# Altium integrated library Actel ProASIC APA FPGA.IntLib: 439 symbols (part 2 of 3)
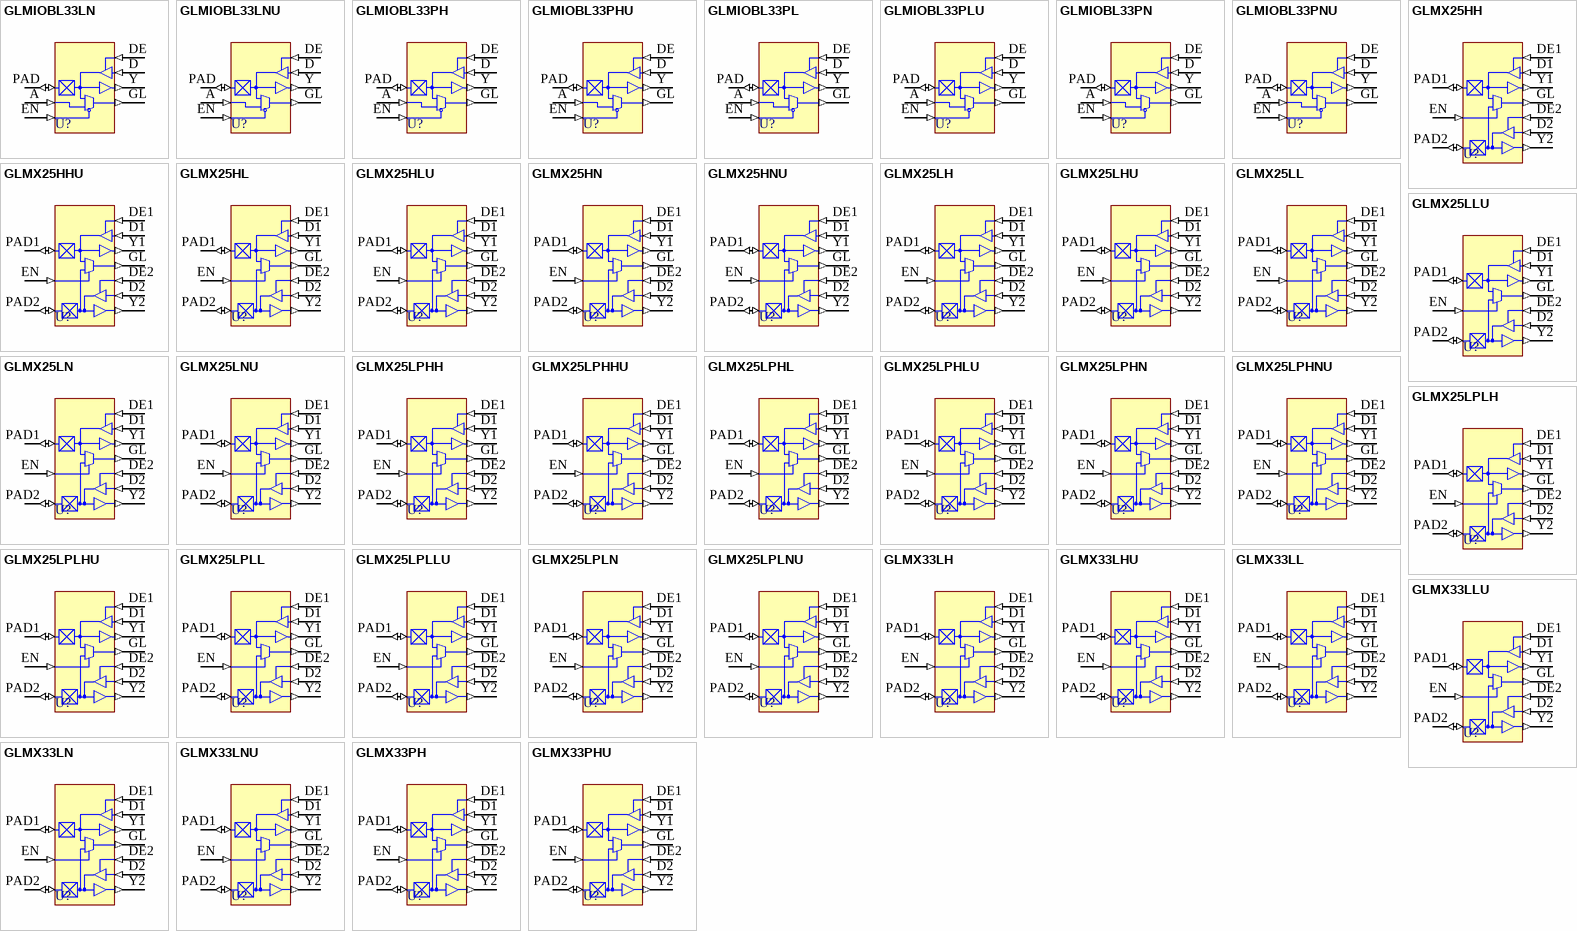
[diagram p12: symbols GLMIOBL33LN to GLMX33PHU]

## GLMIOBL33PNU
designator U?
3.3 Volt CMOS input levels, PCI compliant, normal slew, w/ pull-up resistor; FPGAVendor: Actel; Published: 21-Jul-2004; Publisher: Altium Limited; HelpURL: http://www.actel.com/documents/PA_libguide.pdf
pins: A (in), D (in), DE (in), EN (in), GL (out), PAD (io), Y (out)

## GLMX25HH
designator U?
2.5 Volt CMOS input levels, high power, high slew; FPGAVendor: Actel; Published: 21-Jul-2004; Publisher: Altium Limited; HelpURL: http://www.actel.com/documents/PA_libguide.pdf
pins: D1 (in), D2 (in), DE1 (in), DE2 (in), EN (in), GL (out), PAD1 (io), PAD2 (io), Y1 (out), Y2 (out)

## GLMX25HHU
designator U?
2.5 Volt CMOS input levels, high power, high slew, w/ pull-up resistor; FPGAVendor: Actel; Published: 21-Jul-2004; Publisher: Altium Limited; HelpURL: http://www.actel.com/documents/PA_libguide.pdf
pins: D1 (in), D2 (in), DE1 (in), DE2 (in), EN (in), GL (out), PAD1 (io), PAD2 (io), Y1 (out), Y2 (out)

## GLMX25HL
designator U?
2.5 Volt CMOS input levels, high power, low slew; FPGAVendor: Actel; Published: 21-Jul-2004; Publisher: Altium Limited; HelpURL: http://www.actel.com/documents/PA_libguide.pdf
pins: D1 (in), D2 (in), DE1 (in), DE2 (in), EN (in), GL (out), PAD1 (io), PAD2 (io), Y1 (out), Y2 (out)

## GLMX25HLU
designator U?
2.5 Volt CMOS input levels, high power, low slew, w/ pull-up resistor; FPGAVendor: Actel; Published: 21-Jul-2004; Publisher: Altium Limited; HelpURL: http://www.actel.com/documents/PA_libguide.pdf
pins: D1 (in), D2 (in), DE1 (in), DE2 (in), EN (in), GL (out), PAD1 (io), PAD2 (io), Y1 (out), Y2 (out)

## GLMX25HN
designator U?
2.5 Volt CMOS input levels, high power, normal slew; FPGAVendor: Actel; Published: 21-Jul-2004; Publisher: Altium Limited; HelpURL: http://www.actel.com/documents/PA_libguide.pdf
pins: D1 (in), D2 (in), DE1 (in), DE2 (in), EN (in), GL (out), PAD1 (io), PAD2 (io), Y1 (out), Y2 (out)

## GLMX25HNU
designator U?
2.5 Volt CMOS input levels, high power, normal slew, w/ pull-up resistor; FPGAVendor: Actel; Published: 21-Jul-2004; Publisher: Altium Limited; HelpURL: http://www.actel.com/documents/PA_libguide.pdf
pins: D1 (in), D2 (in), DE1 (in), DE2 (in), EN (in), GL (out), PAD1 (io), PAD2 (io), Y1 (out), Y2 (out)

## GLMX25LH
designator U?
2.5 Volt CMOS input levels, low power, high slew; FPGAVendor: Actel; Published: 21-Jul-2004; Publisher: Altium Limited; HelpURL: http://www.actel.com/documents/PA_libguide.pdf
pins: D1 (in), D2 (in), DE1 (in), DE2 (in), EN (in), GL (out), PAD1 (io), PAD2 (io), Y1 (out), Y2 (out)

## GLMX25LHU
designator U?
2.5 Volt CMOS input levels, low power, high slew, w/ pull-up resistor; FPGAVendor: Actel; Published: 21-Jul-2004; Publisher: Altium Limited; HelpURL: http://www.actel.com/documents/PA_libguide.pdf
pins: D1 (in), D2 (in), DE1 (in), DE2 (in), EN (in), GL (out), PAD1 (io), PAD2 (io), Y1 (out), Y2 (out)

## GLMX25LL
designator U?
2.5 Volt CMOS input levels, low power, low slew; FPGAVendor: Actel; Published: 21-Jul-2004; Publisher: Altium Limited; HelpURL: http://www.actel.com/documents/PA_libguide.pdf
pins: D1 (in), D2 (in), DE1 (in), DE2 (in), EN (in), GL (out), PAD1 (io), PAD2 (io), Y1 (out), Y2 (out)

## GLMX25LLU
designator U?
2.5 Volt CMOS input levels, low power, low slew, w/ pull-up resistor; FPGAVendor: Actel; Published: 21-Jul-2004; Publisher: Altium Limited; HelpURL: http://www.actel.com/documents/PA_libguide.pdf
pins: D1 (in), D2 (in), DE1 (in), DE2 (in), EN (in), GL (out), PAD1 (io), PAD2 (io), Y1 (out), Y2 (out)

## GLMX25LN
designator U?
2.5 Volt CMOS input levels, low power, normal slew; FPGAVendor: Actel; Published: 21-Jul-2004; Publisher: Altium Limited; HelpURL: http://www.actel.com/documents/PA_libguide.pdf
pins: D1 (in), D2 (in), DE1 (in), DE2 (in), EN (in), GL (out), PAD1 (io), PAD2 (io), Y1 (out), Y2 (out)

## GLMX25LNU
designator U?
2.5 Volt CMOS input levels, low power, normal slew, w/ pull up resistor; FPGAVendor: Actel; Published: 21-Jul-2004; Publisher: Altium Limited; HelpURL: http://www.actel.com/documents/PA_libguide.pdf
pins: D1 (in), D2 (in), DE1 (in), DE2 (in), EN (in), GL (out), PAD1 (io), PAD2 (io), Y1 (out), Y2 (out)

## GLMX25LPHH
designator U?
2.5 Volt CMOS input levels, low power, high strength, high slew; FPGAVendor: Actel; Published: 21-Jul-2004; Publisher: Altium Limited; HelpURL: http://www.actel.com/documents/PA_libguide.pdf
pins: D1 (in), D2 (in), DE1 (in), DE2 (in), EN (in), GL (out), PAD1 (io), PAD2 (io), Y1 (out), Y2 (out)

## GLMX25LPHHU
designator U?
2.5 Volt CMOS input levels, low power, high strength, high slew, w/ pull-up resistor; FPGAVendor: Actel; Published: 21-Jul-2004; Publisher: Altium Limited; HelpURL: http://www.actel.com/documents/PA_libguide.pdf
pins: D1 (in), D2 (in), DE1 (in), DE2 (in), EN (in), GL (out), PAD1 (io), PAD2 (io), Y1 (out), Y2 (out)

## GLMX25LPHL
designator U?
2.5 Volt CMOS input levels, low power, high strength, low slew; FPGAVendor: Actel; Published: 21-Jul-2004; Publisher: Altium Limited; HelpURL: http://www.actel.com/documents/PA_libguide.pdf
pins: D1 (in), D2 (in), DE1 (in), DE2 (in), EN (in), GL (out), PAD1 (io), PAD2 (io), Y1 (out), Y2 (out)

## GLMX25LPHLU
designator U?
2.5 Volt CMOS input levels, low power, high strength, low slew, w/ pull-up resistor; FPGAVendor: Actel; Published: 21-Jul-2004; Publisher: Altium Limited; HelpURL: http://www.actel.com/documents/PA_libguide.pdf
pins: D1 (in), D2 (in), DE1 (in), DE2 (in), EN (in), GL (out), PAD1 (io), PAD2 (io), Y1 (out), Y2 (out)

## GLMX25LPHN
designator U?
2.5 Volt CMOS input levels, low power, high strength, normal slew; FPGAVendor: Actel; Published: 21-Jul-2004; Publisher: Altium Limited; HelpURL: http://www.actel.com/documents/PA_libguide.pdf
pins: D1 (in), D2 (in), DE1 (in), DE2 (in), EN (in), GL (out), PAD1 (io), PAD2 (io), Y1 (out), Y2 (out)

## GLMX25LPHNU
designator U?
2.5 Volt CMOS input levels, low power, high strength, normal slew, w/ pull-up resistor; FPGAVendor: Actel; Published: 21-Jul-2004; Publisher: Altium Limited; HelpURL: http://www.actel.com/documents/PA_libguide.pdf
pins: D1 (in), D2 (in), DE1 (in), DE2 (in), EN (in), GL (out), PAD1 (io), PAD2 (io), Y1 (out), Y2 (out)

## GLMX25LPLH
designator U?
2.5 Volt CMOS input levels, low power, low strength, high slew; FPGAVendor: Actel; Published: 21-Jul-2004; Publisher: Altium Limited; HelpURL: http://www.actel.com/documents/PA_libguide.pdf
pins: D1 (in), D2 (in), DE1 (in), DE2 (in), EN (in), GL (out), PAD1 (io), PAD2 (io), Y1 (out), Y2 (out)

## GLMX25LPLHU
designator U?
2.5 Volt CMOS input levels, low power, low strength, high slew, w/ pull-up resistor; FPGAVendor: Actel; Published: 21-Jul-2004; Publisher: Altium Limited; HelpURL: http://www.actel.com/documents/PA_libguide.pdf
pins: D1 (in), D2 (in), DE1 (in), DE2 (in), EN (in), GL (out), PAD1 (io), PAD2 (io), Y1 (out), Y2 (out)

## GLMX25LPLL
designator U?
2.5 Volt CMOS input levels, low power, low strength, low slew; FPGAVendor: Actel; Published: 21-Jul-2004; Publisher: Altium Limited; HelpURL: http://www.actel.com/documents/PA_libguide.pdf
pins: D1 (in), D2 (in), DE1 (in), DE2 (in), EN (in), GL (out), PAD1 (io), PAD2 (io), Y1 (out), Y2 (out)

## GLMX25LPLLU
designator U?
2.5 Volt CMOS input levels, low power, low strength, low slew, w/ pull-up resistor; FPGAVendor: Actel; Published: 21-Jul-2004; Publisher: Altium Limited; HelpURL: http://www.actel.com/documents/PA_libguide.pdf
pins: D1 (in), D2 (in), DE1 (in), DE2 (in), EN (in), GL (out), PAD1 (io), PAD2 (io), Y1 (out), Y2 (out)

## GLMX25LPLN
designator U?
2.5 Volt CMOS input levels, low power, low strength, normal slew; FPGAVendor: Actel; Published: 21-Jul-2004; Publisher: Altium Limited; HelpURL: http://www.actel.com/documents/PA_libguide.pdf
pins: D1 (in), D2 (in), DE1 (in), DE2 (in), EN (in), GL (out), PAD1 (io), PAD2 (io), Y1 (out), Y2 (out)

## GLMX25LPLNU
designator U?
2.5 Volt CMOS input levels, low power, low strength, normal slew, w/ pull-up resistor; FPGAVendor: Actel; Published: 21-Jul-2004; Publisher: Altium Limited; HelpURL: http://www.actel.com/documents/PA_libguide.pdf
pins: D1 (in), D2 (in), DE1 (in), DE2 (in), EN (in), GL (out), PAD1 (io), PAD2 (io), Y1 (out), Y2 (out)

## GLMX33LH
designator U?
3.3 Volt CMOS input levels, low power, high slew; FPGAVendor: Actel; Published: 21-Jul-2004; Publisher: Altium Limited; HelpURL: http://www.actel.com/documents/PA_libguide.pdf
pins: D1 (in), D2 (in), DE1 (in), DE2 (in), EN (in), GL (out), PAD1 (io), PAD2 (io), Y1 (out), Y2 (out)

## GLMX33LHU
designator U?
3.3 Volt CMOS input levels, low power, high slew, w/ pull-up resistor; FPGAVendor: Actel; Published: 21-Jul-2004; Publisher: Altium Limited; HelpURL: http://www.actel.com/documents/PA_libguide.pdf
pins: D1 (in), D2 (in), DE1 (in), DE2 (in), EN (in), GL (out), PAD1 (io), PAD2 (io), Y1 (out), Y2 (out)

## GLMX33LL
designator U?
3.3 Volt CMOS input levels, low power, low slew; FPGAVendor: Actel; Published: 21-Jul-2004; Publisher: Altium Limited; HelpURL: http://www.actel.com/documents/PA_libguide.pdf
pins: D1 (in), D2 (in), DE1 (in), DE2 (in), EN (in), GL (out), PAD1 (io), PAD2 (io), Y1 (out), Y2 (out)

## GLMX33LLU
designator U?
3.3 Volt CMOS input levels, low power, low slew, w/ pull-up resistor; FPGAVendor: Actel; Published: 21-Jul-2004; Publisher: Altium Limited; HelpURL: http://www.actel.com/documents/PA_libguide.pdf
pins: D1 (in), D2 (in), DE1 (in), DE2 (in), EN (in), GL (out), PAD1 (io), PAD2 (io), Y1 (out), Y2 (out)

## GLMX33LN
designator U?
3.3 Volt CMOS input levels, low power, normal slew; FPGAVendor: Actel; Published: 21-Jul-2004; Publisher: Altium Limited; HelpURL: http://www.actel.com/documents/PA_libguide.pdf
pins: D1 (in), D2 (in), DE1 (in), DE2 (in), EN (in), GL (out), PAD1 (io), PAD2 (io), Y1 (out), Y2 (out)

## GLMX33LNU
designator U?
3.3 Volt CMOS input levels, low power, normal slew, w/ pull up resistor; FPGAVendor: Actel; Published: 21-Jul-2004; Publisher: Altium Limited; HelpURL: http://www.actel.com/documents/PA_libguide.pdf
pins: D1 (in), D2 (in), DE1 (in), DE2 (in), EN (in), GL (out), PAD1 (io), PAD2 (io), Y1 (out), Y2 (out)

## GLMX33PH
designator U?
3.3 Volt CMOS input levels, PCI compliant, high slew; FPGAVendor: Actel; Published: 21-Jul-2004; Publisher: Altium Limited; HelpURL: http://www.actel.com/documents/PA_libguide.pdf
pins: D1 (in), D2 (in), DE1 (in), DE2 (in), EN (in), GL (out), PAD1 (io), PAD2 (io), Y1 (out), Y2 (out)

## GLMX33PHU
designator U?
3.3 Volt CMOS input levels, PCI compliant, high slew, w/ pull-up resistor; FPGAVendor: Actel; Published: 21-Jul-2004; Publisher: Altium Limited; HelpURL: http://www.actel.com/documents/PA_libguide.pdf
pins: D1 (in), D2 (in), DE1 (in), DE2 (in), EN (in), GL (out), PAD1 (io), PAD2 (io), Y1 (out), Y2 (out)

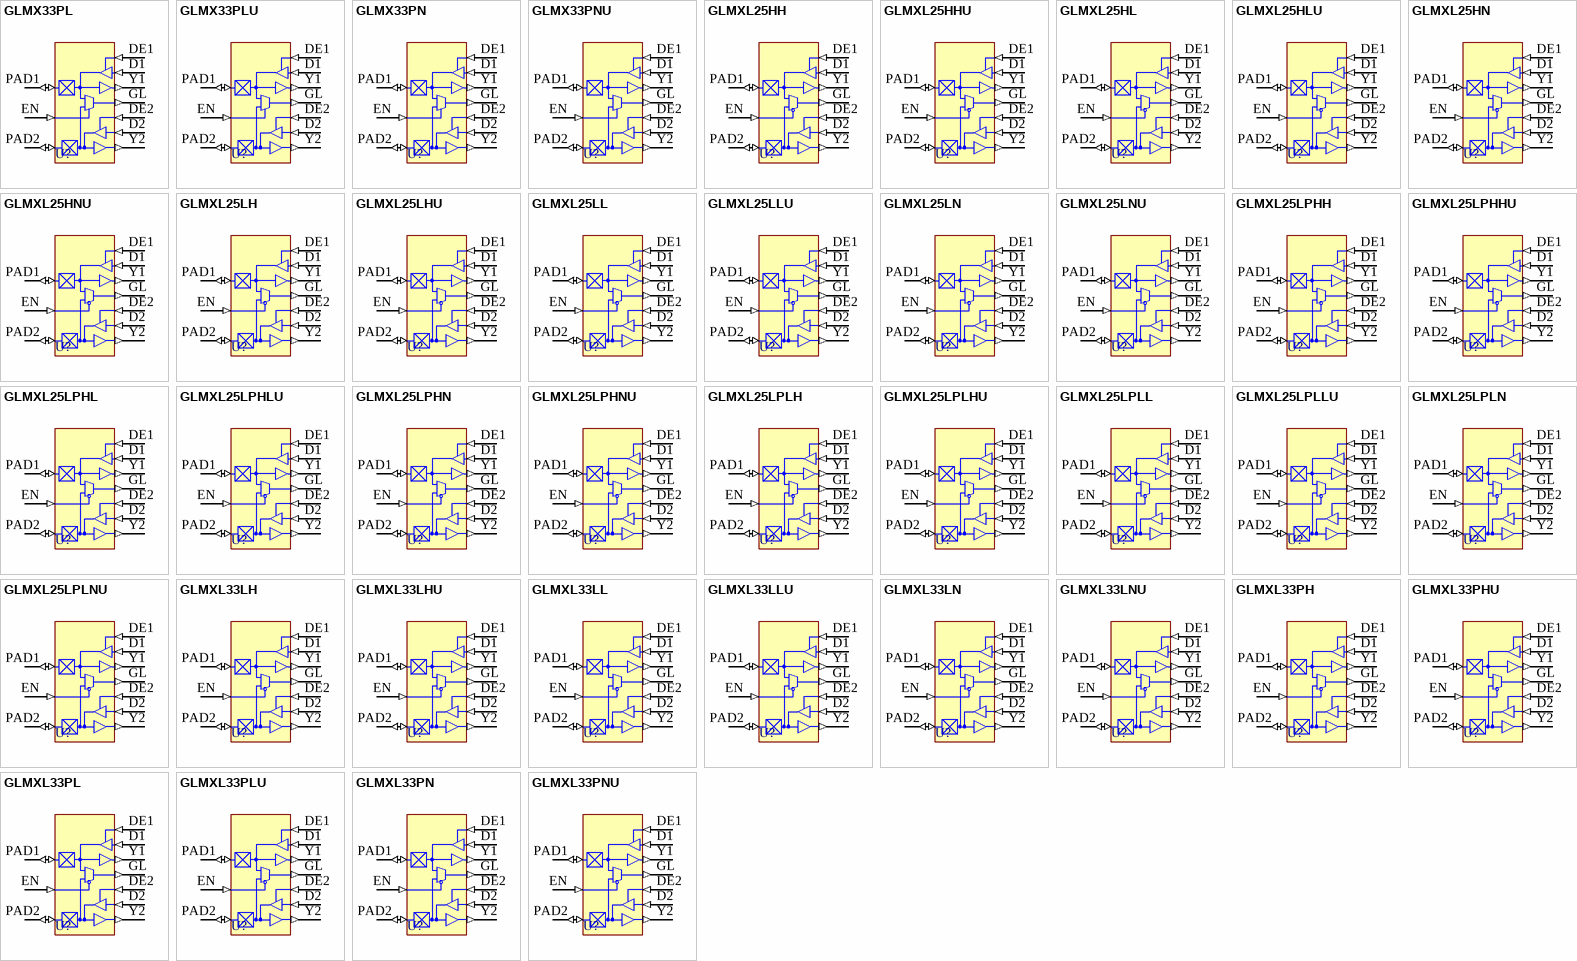
[diagram p5: symbols GLMX33PL to GLMXL33PNU]

## GLMX33PL
designator U?
3.3 Volt CMOS input levels, PCI compliant, low slew; FPGAVendor: Actel; Published: 21-Jul-2004; Publisher: Altium Limited; HelpURL: http://www.actel.com/documents/PA_libguide.pdf
pins: D1 (in), D2 (in), DE1 (in), DE2 (in), EN (in), GL (out), PAD1 (io), PAD2 (io), Y1 (out), Y2 (out)

## GLMX33PLU
designator U?
3.3 Volt CMOS input levels, PCI compliant, low slew, w/ pull-up resistor; FPGAVendor: Actel; Published: 21-Jul-2004; Publisher: Altium Limited; HelpURL: http://www.actel.com/documents/PA_libguide.pdf
pins: D1 (in), D2 (in), DE1 (in), DE2 (in), EN (in), GL (out), PAD1 (io), PAD2 (io), Y1 (out), Y2 (out)

## GLMX33PN
designator U?
3.3 Volt CMOS input levels, PCI compliant, normal slew; FPGAVendor: Actel; Published: 21-Jul-2004; Publisher: Altium Limited; HelpURL: http://www.actel.com/documents/PA_libguide.pdf
pins: D1 (in), D2 (in), DE1 (in), DE2 (in), EN (in), GL (out), PAD1 (io), PAD2 (io), Y1 (out), Y2 (out)

## GLMX33PNU
designator U?
3.3 Volt CMOS input levels, PCI compliant, normal slew, w/ pull-up resistor; FPGAVendor: Actel; Published: 21-Jul-2004; Publisher: Altium Limited; HelpURL: http://www.actel.com/documents/PA_libguide.pdf
pins: D1 (in), D2 (in), DE1 (in), DE2 (in), EN (in), GL (out), PAD1 (io), PAD2 (io), Y1 (out), Y2 (out)

## GLMXL25HH
designator U?
2.5 Volt CMOS input levels, high power, high slew; FPGAVendor: Actel; Published: 21-Jul-2004; Publisher: Altium Limited; HelpURL: http://www.actel.com/documents/PA_libguide.pdf
pins: D1 (in), D2 (in), DE1 (in), DE2 (in), EN (in), GL (out), PAD1 (io), PAD2 (io), Y1 (out), Y2 (out)

## GLMXL25HHU
designator U?
2.5 Volt CMOS input levels, high power, high slew, w/ pull-up resistor; FPGAVendor: Actel; Published: 21-Jul-2004; Publisher: Altium Limited; HelpURL: http://www.actel.com/documents/PA_libguide.pdf
pins: D1 (in), D2 (in), DE1 (in), DE2 (in), EN (in), GL (out), PAD1 (io), PAD2 (io), Y1 (out), Y2 (out)

## GLMXL25HL
designator U?
2.5 Volt CMOS input levels, high power, low slew; FPGAVendor: Actel; Published: 21-Jul-2004; Publisher: Altium Limited; HelpURL: http://www.actel.com/documents/PA_libguide.pdf
pins: D1 (in), D2 (in), DE1 (in), DE2 (in), EN (in), GL (out), PAD1 (io), PAD2 (io), Y1 (out), Y2 (out)

## GLMXL25HLU
designator U?
2.5 Volt CMOS input levels, high power, low slew, w/ pull-up resistor; FPGAVendor: Actel; Published: 21-Jul-2004; Publisher: Altium Limited; HelpURL: http://www.actel.com/documents/PA_libguide.pdf
pins: D1 (in), D2 (in), DE1 (in), DE2 (in), EN (in), GL (out), PAD1 (io), PAD2 (io), Y1 (out), Y2 (out)

## GLMXL25HN
designator U?
2.5 Volt CMOS input levels, high power, normal slew; FPGAVendor: Actel; Published: 21-Jul-2004; Publisher: Altium Limited; HelpURL: http://www.actel.com/documents/PA_libguide.pdf
pins: D1 (in), D2 (in), DE1 (in), DE2 (in), EN (in), GL (out), PAD1 (io), PAD2 (io), Y1 (out), Y2 (out)

## GLMXL25HNU
designator U?
2.5 Volt CMOS input levels, high power, normal slew, w/ pull-up resistor; FPGAVendor: Actel; Published: 21-Jul-2004; Publisher: Altium Limited; HelpURL: http://www.actel.com/documents/PA_libguide.pdf
pins: D1 (in), D2 (in), DE1 (in), DE2 (in), EN (in), GL (out), PAD1 (io), PAD2 (io), Y1 (out), Y2 (out)

## GLMXL25LH
designator U?
2.5 Volt CMOS input levels, low power, high slew; FPGAVendor: Actel; Published: 21-Jul-2004; Publisher: Altium Limited; HelpURL: http://www.actel.com/documents/PA_libguide.pdf
pins: D1 (in), D2 (in), DE1 (in), DE2 (in), EN (in), GL (out), PAD1 (io), PAD2 (io), Y1 (out), Y2 (out)

## GLMXL25LHU
designator U?
2.5 Volt CMOS input levels, low power, high slew, w/ pull-up resistor; FPGAVendor: Actel; Published: 21-Jul-2004; Publisher: Altium Limited; HelpURL: http://www.actel.com/documents/PA_libguide.pdf
pins: D1 (in), D2 (in), DE1 (in), DE2 (in), EN (in), GL (out), PAD1 (io), PAD2 (io), Y1 (out), Y2 (out)

## GLMXL25LL
designator U?
2.5 Volt CMOS input levels, low power, low slew; FPGAVendor: Actel; Published: 21-Jul-2004; Publisher: Altium Limited; HelpURL: http://www.actel.com/documents/PA_libguide.pdf
pins: D1 (in), D2 (in), DE1 (in), DE2 (in), EN (in), GL (out), PAD1 (io), PAD2 (io), Y1 (out), Y2 (out)

## GLMXL25LLU
designator U?
2.5 Volt CMOS input levels, low power, low slew, w/ pull-up resistor; FPGAVendor: Actel; Published: 21-Jul-2004; Publisher: Altium Limited; HelpURL: http://www.actel.com/documents/PA_libguide.pdf
pins: D1 (in), D2 (in), DE1 (in), DE2 (in), EN (in), GL (out), PAD1 (io), PAD2 (io), Y1 (out), Y2 (out)

## GLMXL25LN
designator U?
2.5 Volt CMOS input levels, low power, normal slew; FPGAVendor: Actel; Published: 21-Jul-2004; Publisher: Altium Limited; HelpURL: http://www.actel.com/documents/PA_libguide.pdf
pins: D1 (in), D2 (in), DE1 (in), DE2 (in), EN (in), GL (out), PAD1 (io), PAD2 (io), Y1 (out), Y2 (out)

## GLMXL25LNU
designator U?
2.5 Volt CMOS input levels, low power, normal slew, w/ pull up resistor; FPGAVendor: Actel; Published: 21-Jul-2004; Publisher: Altium Limited; HelpURL: http://www.actel.com/documents/PA_libguide.pdf
pins: D1 (in), D2 (in), DE1 (in), DE2 (in), EN (in), GL (out), PAD1 (io), PAD2 (io), Y1 (out), Y2 (out)

## GLMXL25LPHH
designator U?
2.5 Volt CMOS input levels, low power, high strength, high slew; FPGAVendor: Actel; Published: 21-Jul-2004; Publisher: Altium Limited; HelpURL: http://www.actel.com/documents/PA_libguide.pdf
pins: D1 (in), D2 (in), DE1 (in), DE2 (in), EN (in), GL (out), PAD1 (io), PAD2 (io), Y1 (out), Y2 (out)

## GLMXL25LPHHU
designator U?
2.5 Volt CMOS input levels, low power, high strength, high slew, w/ pull-up resistor; FPGAVendor: Actel; Published: 21-Jul-2004; Publisher: Altium Limited; HelpURL: http://www.actel.com/documents/PA_libguide.pdf
pins: D1 (in), D2 (in), DE1 (in), DE2 (in), EN (in), GL (out), PAD1 (io), PAD2 (io), Y1 (out), Y2 (out)

## GLMXL25LPHL
designator U?
2.5 Volt CMOS input levels, low power, high strength, low slew; FPGAVendor: Actel; Published: 21-Jul-2004; Publisher: Altium Limited; HelpURL: http://www.actel.com/documents/PA_libguide.pdf
pins: D1 (in), D2 (in), DE1 (in), DE2 (in), EN (in), GL (out), PAD1 (io), PAD2 (io), Y1 (out), Y2 (out)

## GLMXL25LPHLU
designator U?
2.5 Volt CMOS input levels, low power, high strength, low slew, w/ pull-up resistor; FPGAVendor: Actel; Published: 21-Jul-2004; Publisher: Altium Limited; HelpURL: http://www.actel.com/documents/PA_libguide.pdf
pins: D1 (in), D2 (in), DE1 (in), DE2 (in), EN (in), GL (out), PAD1 (io), PAD2 (io), Y1 (out), Y2 (out)

## GLMXL25LPHN
designator U?
2.5 Volt CMOS input levels, low power, high strength, normal slew; FPGAVendor: Actel; Published: 21-Jul-2004; Publisher: Altium Limited; HelpURL: http://www.actel.com/documents/PA_libguide.pdf
pins: D1 (in), D2 (in), DE1 (in), DE2 (in), EN (in), GL (out), PAD1 (io), PAD2 (io), Y1 (out), Y2 (out)

## GLMXL25LPHNU
designator U?
2.5 Volt CMOS input levels, low power, high strength, normal slew, w/ pull-up resistor; FPGAVendor: Actel; Published: 21-Jul-2004; Publisher: Altium Limited; HelpURL: http://www.actel.com/documents/PA_libguide.pdf
pins: D1 (in), D2 (in), DE1 (in), DE2 (in), EN (in), GL (out), PAD1 (io), PAD2 (io), Y1 (out), Y2 (out)

## GLMXL25LPLH
designator U?
2.5 Volt CMOS input levels, low power, low strength, high slew; FPGAVendor: Actel; Published: 21-Jul-2004; Publisher: Altium Limited; HelpURL: http://www.actel.com/documents/PA_libguide.pdf
pins: D1 (in), D2 (in), DE1 (in), DE2 (in), EN (in), GL (out), PAD1 (io), PAD2 (io), Y1 (out), Y2 (out)

## GLMXL25LPLHU
designator U?
2.5 Volt CMOS input levels, low power, low strength, high slew, w/ pull-up resistor; FPGAVendor: Actel; Published: 21-Jul-2004; Publisher: Altium Limited; HelpURL: http://www.actel.com/documents/PA_libguide.pdf
pins: D1 (in), D2 (in), DE1 (in), DE2 (in), EN (in), GL (out), PAD1 (io), PAD2 (io), Y1 (out), Y2 (out)

## GLMXL25LPLL
designator U?
2.5 Volt CMOS input levels, low power, low strength, low slew; FPGAVendor: Actel; Published: 21-Jul-2004; Publisher: Altium Limited; HelpURL: http://www.actel.com/documents/PA_libguide.pdf
pins: D1 (in), D2 (in), DE1 (in), DE2 (in), EN (in), GL (out), PAD1 (io), PAD2 (io), Y1 (out), Y2 (out)

## GLMXL25LPLLU
designator U?
2.5 Volt CMOS input levels, low power, low strength, low slew, w/ pull-up resistor; FPGAVendor: Actel; Published: 21-Jul-2004; Publisher: Altium Limited; HelpURL: http://www.actel.com/documents/PA_libguide.pdf
pins: D1 (in), D2 (in), DE1 (in), DE2 (in), EN (in), GL (out), PAD1 (io), PAD2 (io), Y1 (out), Y2 (out)

## GLMXL25LPLN
designator U?
2.5 Volt CMOS input levels, low power, low strength, normal slew; FPGAVendor: Actel; Published: 21-Jul-2004; Publisher: Altium Limited; HelpURL: http://www.actel.com/documents/PA_libguide.pdf
pins: D1 (in), D2 (in), DE1 (in), DE2 (in), EN (in), GL (out), PAD1 (io), PAD2 (io), Y1 (out), Y2 (out)

## GLMXL25LPLNU
designator U?
2.5 Volt CMOS input levels, low power, low strength, normal slew, w/ pull-up resistor; FPGAVendor: Actel; Published: 21-Jul-2004; Publisher: Altium Limited; HelpURL: http://www.actel.com/documents/PA_libguide.pdf
pins: D1 (in), D2 (in), DE1 (in), DE2 (in), EN (in), GL (out), PAD1 (io), PAD2 (io), Y1 (out), Y2 (out)

## GLMXL33LH
designator U?
3.3 Volt CMOS input levels, low power, high slew; FPGAVendor: Actel; Published: 21-Jul-2004; Publisher: Altium Limited; HelpURL: http://www.actel.com/documents/PA_libguide.pdf
pins: D1 (in), D2 (in), DE1 (in), DE2 (in), EN (in), GL (out), PAD1 (io), PAD2 (io), Y1 (out), Y2 (out)

## GLMXL33LHU
designator U?
3.3 Volt CMOS input levels, low power, high slew, w/ pull-up resistor; FPGAVendor: Actel; Published: 21-Jul-2004; Publisher: Altium Limited; HelpURL: http://www.actel.com/documents/PA_libguide.pdf
pins: D1 (in), D2 (in), DE1 (in), DE2 (in), EN (in), GL (out), PAD1 (io), PAD2 (io), Y1 (out), Y2 (out)

## GLMXL33LL
designator U?
3.3 Volt CMOS input levels, low power, low slew; FPGAVendor: Actel; Published: 21-Jul-2004; Publisher: Altium Limited; HelpURL: http://www.actel.com/documents/PA_libguide.pdf
pins: D1 (in), D2 (in), DE1 (in), DE2 (in), EN (in), GL (out), PAD1 (io), PAD2 (io), Y1 (out), Y2 (out)

## GLMXL33LLU
designator U?
3.3 Volt CMOS input levels, low power, low slew, w/ pull-up resistor; FPGAVendor: Actel; Published: 21-Jul-2004; Publisher: Altium Limited; HelpURL: http://www.actel.com/documents/PA_libguide.pdf
pins: D1 (in), D2 (in), DE1 (in), DE2 (in), EN (in), GL (out), PAD1 (io), PAD2 (io), Y1 (out), Y2 (out)

## GLMXL33LN
designator U?
3.3 Volt CMOS input levels, low power, normal slew; FPGAVendor: Actel; Published: 21-Jul-2004; Publisher: Altium Limited; HelpURL: http://www.actel.com/documents/PA_libguide.pdf
pins: D1 (in), D2 (in), DE1 (in), DE2 (in), EN (in), GL (out), PAD1 (io), PAD2 (io), Y1 (out), Y2 (out)

## GLMXL33LNU
designator U?
3.3 Volt CMOS input levels, low power, normal slew, w/ pull up resistor; FPGAVendor: Actel; Published: 21-Jul-2004; Publisher: Altium Limited; HelpURL: http://www.actel.com/documents/PA_libguide.pdf
pins: D1 (in), D2 (in), DE1 (in), DE2 (in), EN (in), GL (out), PAD1 (io), PAD2 (io), Y1 (out), Y2 (out)

## GLMXL33PH
designator U?
3.3 Volt CMOS input levels, PCI compliant, high slew; FPGAVendor: Actel; Published: 21-Jul-2004; Publisher: Altium Limited; HelpURL: http://www.actel.com/documents/PA_libguide.pdf
pins: D1 (in), D2 (in), DE1 (in), DE2 (in), EN (in), GL (out), PAD1 (io), PAD2 (io), Y1 (out), Y2 (out)

## GLMXL33PHU
designator U?
3.3 Volt CMOS input levels, PCI compliant, high slew, w/ pull-up resistor; FPGAVendor: Actel; Published: 21-Jul-2004; Publisher: Altium Limited; HelpURL: http://www.actel.com/documents/PA_libguide.pdf
pins: D1 (in), D2 (in), DE1 (in), DE2 (in), EN (in), GL (out), PAD1 (io), PAD2 (io), Y1 (out), Y2 (out)

## GLMXL33PL
designator U?
3.3 Volt CMOS input levels, PCI compliant, low slew; FPGAVendor: Actel; Published: 21-Jul-2004; Publisher: Altium Limited; HelpURL: http://www.actel.com/documents/PA_libguide.pdf
pins: D1 (in), D2 (in), DE1 (in), DE2 (in), EN (in), GL (out), PAD1 (io), PAD2 (io), Y1 (out), Y2 (out)

## GLMXL33PLU
designator U?
3.3 Volt CMOS input levels, PCI compliant, low slew, w/ pull-up resistor; FPGAVendor: Actel; Published: 21-Jul-2004; Publisher: Altium Limited; HelpURL: http://www.actel.com/documents/PA_libguide.pdf
pins: D1 (in), D2 (in), DE1 (in), DE2 (in), EN (in), GL (out), PAD1 (io), PAD2 (io), Y1 (out), Y2 (out)

## GLMXL33PN
designator U?
3.3 Volt CMOS input levels, PCI compliant, normal slew; FPGAVendor: Actel; Published: 21-Jul-2004; Publisher: Altium Limited; HelpURL: http://www.actel.com/documents/PA_libguide.pdf
pins: D1 (in), D2 (in), DE1 (in), DE2 (in), EN (in), GL (out), PAD1 (io), PAD2 (io), Y1 (out), Y2 (out)

## GLMXL33PNU
designator U?
3.3 Volt CMOS input levels, PCI compliant, normal slew, w/ pull-up resistor; FPGAVendor: Actel; Published: 21-Jul-2004; Publisher: Altium Limited; HelpURL: http://www.actel.com/documents/PA_libguide.pdf
pins: D1 (in), D2 (in), DE1 (in), DE2 (in), EN (in), GL (out), PAD1 (io), PAD2 (io), Y1 (out), Y2 (out)

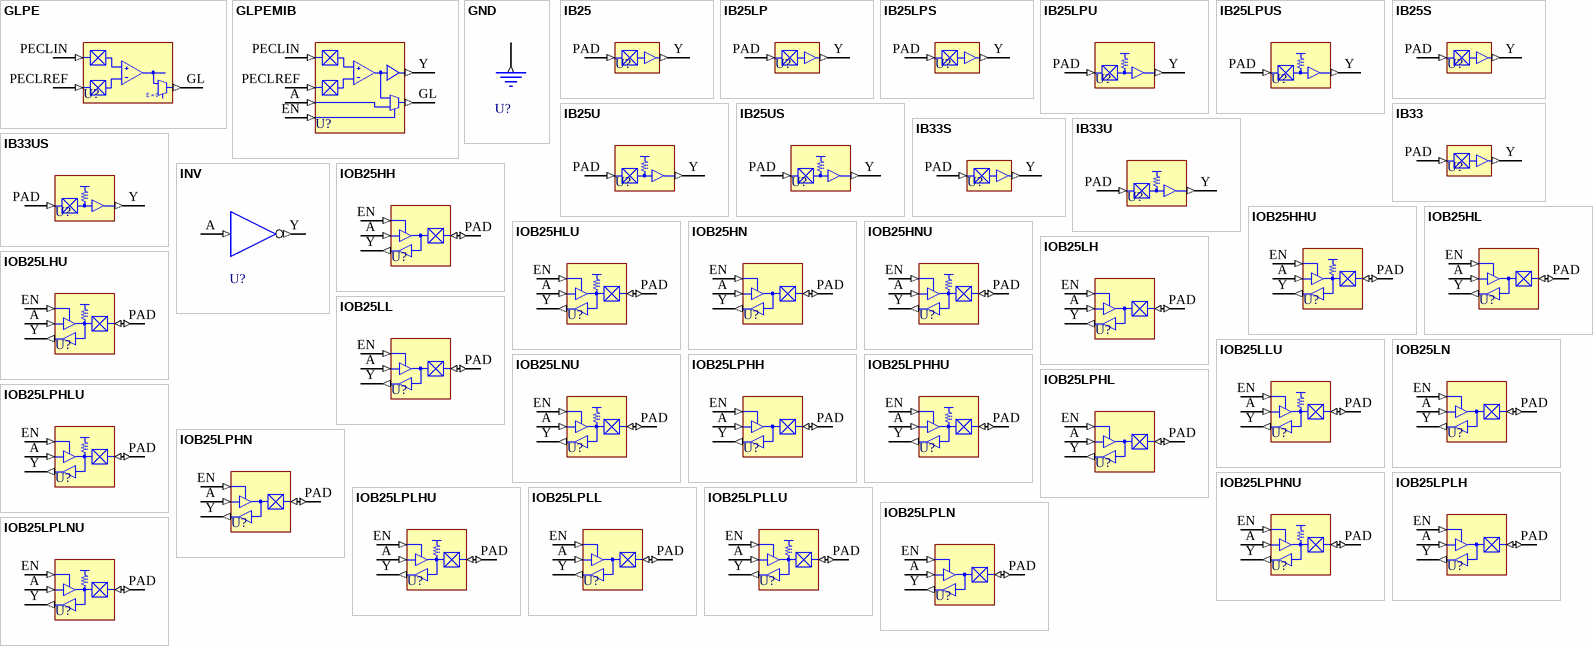
[diagram p6: symbols GLPE to IOB25LPLNU]

## GLPE
designator U?
LVPECL inputs for high-speed signaling.; FPGAVendor: Actel; Published: 21-Jul-2004; Publisher: Altium Limited; HelpURL: http://www.actel.com/documents/PA_libguide.pdf
pins: GL (out), PECLIN (in), PECLREF (in)
text: E = 0

## GLPEMIB
designator U?
LVPECL inputs for high-speed signaling.; FPGAVendor: Actel; Published: 21-Jul-2004; Publisher: Altium Limited; HelpURL: http://www.actel.com/documents/PA_libguide.pdf
pins: A (in), EN (in), GL (out), PECLIN (in), PECLREF (in), Y (out)

## GND
designator U?
Ground; FPGAVendor: Actel; Published: 21-Jul-2004; Publisher: Altium Limited; HelpURL: http://www.actel.com/documents/PA_libguide.pdf
pins: Y (out)

## IB25
designator U?
2.5 Volt CMOS input levels; FPGAVendor: Actel; Published: 21-Jul-2004; Publisher: Altium Limited; HelpURL: http://www.actel.com/documents/PA_libguide.pdf
pins: PAD (in), Y (out)

## IB25LP
designator U?
2.5 Volt CMOS input levels, low power; FPGAVendor: Actel; Published: 21-Jul-2004; Publisher: Altium Limited; HelpURL: http://www.actel.com/documents/PA_libguide.pdf
pins: PAD (in), Y (out)

## IB25LPS
designator U?
2.5 Volt CMOS input levels, low power, Schmitt Trigger; FPGAVendor: Actel; Published: 21-Jul-2004; Publisher: Altium Limited; HelpURL: http://www.actel.com/documents/PA_libguide.pdf
pins: PAD (in), Y (out)

## IB25LPU
designator U?
2.5 Volt CMOS input levels, low power, with pull-up resistor; FPGAVendor: Actel; Published: 21-Jul-2004; Publisher: Altium Limited; HelpURL: http://www.actel.com/documents/PA_libguide.pdf
pins: PAD (in), Y (out)

## IB25LPUS
designator U?
2.5 Volt CMOS input levels, low power, with pull-up resistor and Schmitt Trigger; FPGAVendor: Actel; Published: 21-Jul-2004; Publisher: Altium Limited; HelpURL: http://www.actel.com/documents/PA_libguide.pdf
pins: PAD (in), Y (out)

## IB25S
designator U?
2.5 Volt CMOS input levels, Schmitt Trigger; FPGAVendor: Actel; Published: 21-Jul-2004; Publisher: Altium Limited; HelpURL: http://www.actel.com/documents/PA_libguide.pdf
pins: PAD (in), Y (out)

## IB25U
designator U?
2.5 Volt CMOS input levels, with pull-up resistor; FPGAVendor: Actel; Published: 21-Jul-2004; Publisher: Altium Limited; HelpURL: http://www.actel.com/documents/PA_libguide.pdf
pins: PAD (in), Y (out)

## IB25US
designator U?
2.5 Volt CMOS input levels, with pull-up resistor and Schmitt Trigger; FPGAVendor: Actel; Published: 21-Jul-2004; Publisher: Altium Limited; HelpURL: http://www.actel.com/documents/PA_libguide.pdf
pins: PAD (in), Y (out)

## IB33
designator U?
3.3 Volt CMOS input levels; FPGAVendor: Actel; Published: 21-Jul-2004; Publisher: Altium Limited; HelpURL: http://www.actel.com/documents/PA_libguide.pdf
pins: PAD (in), Y (out)

## IB33S
designator U?
3.3 Volt CMOS input levels, Schmitt Trigger; FPGAVendor: Actel; Published: 21-Jul-2004; Publisher: Altium Limited; HelpURL: http://www.actel.com/documents/PA_libguide.pdf
pins: PAD (in), Y (out)

## IB33U
designator U?
3.3 Volt CMOS input levels, with pull-up resistor; FPGAVendor: Actel; Published: 21-Jul-2004; Publisher: Altium Limited; HelpURL: http://www.actel.com/documents/PA_libguide.pdf
pins: PAD (in), Y (out)

## IB33US
designator U?
3.3 Volt CMOS input levels, with pull-up resistor and Schmitt Trigger; FPGAVendor: Actel; Published: 21-Jul-2004; Publisher: Altium Limited; HelpURL: http://www.actel.com/documents/PA_libguide.pdf
pins: PAD (in), Y (out)

## INV
designator U?
Inverter; FPGAVendor: Actel; Published: 21-Jul-2004; Publisher: Altium Limited; HelpURL: http://www.actel.com/documents/PA_libguide.pdf
pins: A (in), Y (out)

## IOB25HH
designator U?
2.5 Volt CMOS input levels, high drive strength, high slew rate; FPGAVendor: Actel; Published: 21-Jul-2004; Publisher: Altium Limited; HelpURL: http://www.actel.com/documents/PA_libguide.pdf
pins: A (in), EN (in), PAD (io), Y (out)

## IOB25HHU
designator U?
2.5 Volt CMOS input levels, high drive strength, high slew rate, with pull-up resistor; FPGAVendor: Actel; Published: 21-Jul-2004; Publisher: Altium Limited; HelpURL: http://www.actel.com/documents/PA_libguide.pdf
pins: A (in), EN (in), PAD (io), Y (out)

## IOB25HL
designator U?
2.5 Volt CMOS input levels, high drive strength, low slew rate; FPGAVendor: Actel; Published: 21-Jul-2004; Publisher: Altium Limited; HelpURL: http://www.actel.com/documents/PA_libguide.pdf
pins: A (in), EN (in), PAD (io), Y (out)

## IOB25HLU
designator U?
2.5 Volt CMOS input levels, high drive strength, low slew rate, with pull-up resistor; FPGAVendor: Actel; Published: 21-Jul-2004; Publisher: Altium Limited; HelpURL: http://www.actel.com/documents/PA_libguide.pdf
pins: A (in), EN (in), PAD (io), Y (out)

## IOB25HN
designator U?
2.5 Volt CMOS input levels, high drive strength, normal slew rate; FPGAVendor: Actel; Published: 21-Jul-2004; Publisher: Altium Limited; HelpURL: http://www.actel.com/documents/PA_libguide.pdf
pins: A (in), EN (in), PAD (io), Y (out)

## IOB25HNU
designator U?
2.5 Volt CMOS input levels, high drive strength, normal slew rate, with pull-up resistor; FPGAVendor: Actel; Published: 21-Jul-2004; Publisher: Altium Limited; HelpURL: http://www.actel.com/documents/PA_libguide.pdf
pins: A (in), EN (in), PAD (io), Y (out)

## IOB25LH
designator U?
2.5 Volt CMOS input levels, low drive strength, high slew rate; FPGAVendor: Actel; Published: 21-Jul-2004; Publisher: Altium Limited; HelpURL: http://www.actel.com/documents/PA_libguide.pdf
pins: A (in), EN (in), PAD (io), Y (out)

## IOB25LHU
designator U?
2.5 Volt CMOS input levels, low drive strength, high slew rate, with pull-up resistor; FPGAVendor: Actel; Published: 21-Jul-2004; Publisher: Altium Limited; HelpURL: http://www.actel.com/documents/PA_libguide.pdf
pins: A (in), EN (in), PAD (io), Y (out)

## IOB25LL
designator U?
2.5 Volt CMOS input levels, low drive strength, low slew rate; FPGAVendor: Actel; Published: 21-Jul-2004; Publisher: Altium Limited; HelpURL: http://www.actel.com/documents/PA_libguide.pdf
pins: A (in), EN (in), PAD (io), Y (out)

## IOB25LLU
designator U?
2.5 Volt CMOS input levels, low drive strength, low slew rate, with pull-up resistor; FPGAVendor: Actel; Published: 21-Jul-2004; Publisher: Altium Limited; HelpURL: http://www.actel.com/documents/PA_libguide.pdf
pins: A (in), EN (in), PAD (io), Y (out)

## IOB25LN
designator U?
2.5 Volt CMOS input levels, low drive strength, normal slew rate; FPGAVendor: Actel; Published: 21-Jul-2004; Publisher: Altium Limited; HelpURL: http://www.actel.com/documents/PA_libguide.pdf
pins: A (in), EN (in), PAD (io), Y (out)

## IOB25LNU
designator U?
2.5 Volt CMOS input levels, low drive strength, normal slew rate, with pull-up resistor; FPGAVendor: Actel; Published: 21-Jul-2004; Publisher: Altium Limited; HelpURL: http://www.actel.com/documents/PA_libguide.pdf
pins: A (in), EN (in), PAD (io), Y (out)

## IOB25LPHH
designator U?
2.5 Volt CMOS input levels, low power, high drive strength, high slew rate; FPGAVendor: Actel; Published: 21-Jul-2004; Publisher: Altium Limited; HelpURL: http://www.actel.com/documents/PA_libguide.pdf
pins: A (in), EN (in), PAD (io), Y (out)

## IOB25LPHHU
designator U?
2.5 Volt CMOS input levels, low power, high drive strength, high slew rate, with pull-up resistor; FPGAVendor: Actel; Published: 21-Jul-2004; Publisher: Altium Limited; HelpURL: http://www.actel.com/documents/PA_libguide.pdf
pins: A (in), EN (in), PAD (io), Y (out)

## IOB25LPHL
designator U?
2.5 Volt CMOS input levels, low power, high drive strength, low slew rate; FPGAVendor: Actel; Published: 21-Jul-2004; Publisher: Altium Limited; HelpURL: http://www.actel.com/documents/PA_libguide.pdf
pins: A (in), EN (in), PAD (io), Y (out)

## IOB25LPHLU
designator U?
2.5 Volt CMOS input levels, low power, high drive strength, low slew rate, with pull-up resistor; FPGAVendor: Actel; Published: 21-Jul-2004; Publisher: Altium Limited; HelpURL: http://www.actel.com/documents/PA_libguide.pdf
pins: A (in), EN (in), PAD (io), Y (out)

## IOB25LPHN
designator U?
2.5 Volt CMOS input levels, low power, high drive strength, normal slew rate; FPGAVendor: Actel; Published: 21-Jul-2004; Publisher: Altium Limited; HelpURL: http://www.actel.com/documents/PA_libguide.pdf
pins: A (in), EN (in), PAD (io), Y (out)

## IOB25LPHNU
designator U?
2.5 Volt CMOS input levels, low power, high drive strength, normal slew rate, with pull-up resistor; FPGAVendor: Actel; Published: 21-Jul-2004; Publisher: Altium Limited; HelpURL: http://www.actel.com/documents/PA_libguide.pdf
pins: A (in), EN (in), PAD (io), Y (out)

## IOB25LPLH
designator U?
2.5 Volt CMOS input levels, low power, low drive strength, high slew rate; FPGAVendor: Actel; Published: 21-Jul-2004; Publisher: Altium Limited; HelpURL: http://www.actel.com/documents/PA_libguide.pdf
pins: A (in), EN (in), PAD (io), Y (out)

## IOB25LPLHU
designator U?
2.5 Volt CMOS input levels, low power, low drive strength, high slew rate, with pull-up resistor; FPGAVendor: Actel; Published: 21-Jul-2004; Publisher: Altium Limited; HelpURL: http://www.actel.com/documents/PA_libguide.pdf
pins: A (in), EN (in), PAD (io), Y (out)

## IOB25LPLL
designator U?
2.5 Volt CMOS input levels, low power, low drive strength, low slew rate; FPGAVendor: Actel; Published: 21-Jul-2004; Publisher: Altium Limited; HelpURL: http://www.actel.com/documents/PA_libguide.pdf
pins: A (in), EN (in), PAD (io), Y (out)

## IOB25LPLLU
designator U?
2.5 Volt CMOS input levels, low power, low drive strength, low slew rate, with pull-up resistor; FPGAVendor: Actel; Published: 21-Jul-2004; Publisher: Altium Limited; HelpURL: http://www.actel.com/documents/PA_libguide.pdf
pins: A (in), EN (in), PAD (io), Y (out)

## IOB25LPLN
designator U?
2.5 Volt CMOS input levels, low power, low drive strength, normal slew rate; FPGAVendor: Actel; Published: 21-Jul-2004; Publisher: Altium Limited; HelpURL: http://www.actel.com/documents/PA_libguide.pdf
pins: A (in), EN (in), PAD (io), Y (out)

## IOB25LPLNU
designator U?
2.5 Volt CMOS input levels, low power, low drive strength, normal slew rate, with pull-up resistor; FPGAVendor: Actel; Published: 21-Jul-2004; Publisher: Altium Limited; HelpURL: http://www.actel.com/documents/PA_libguide.pdf
pins: A (in), EN (in), PAD (io), Y (out)

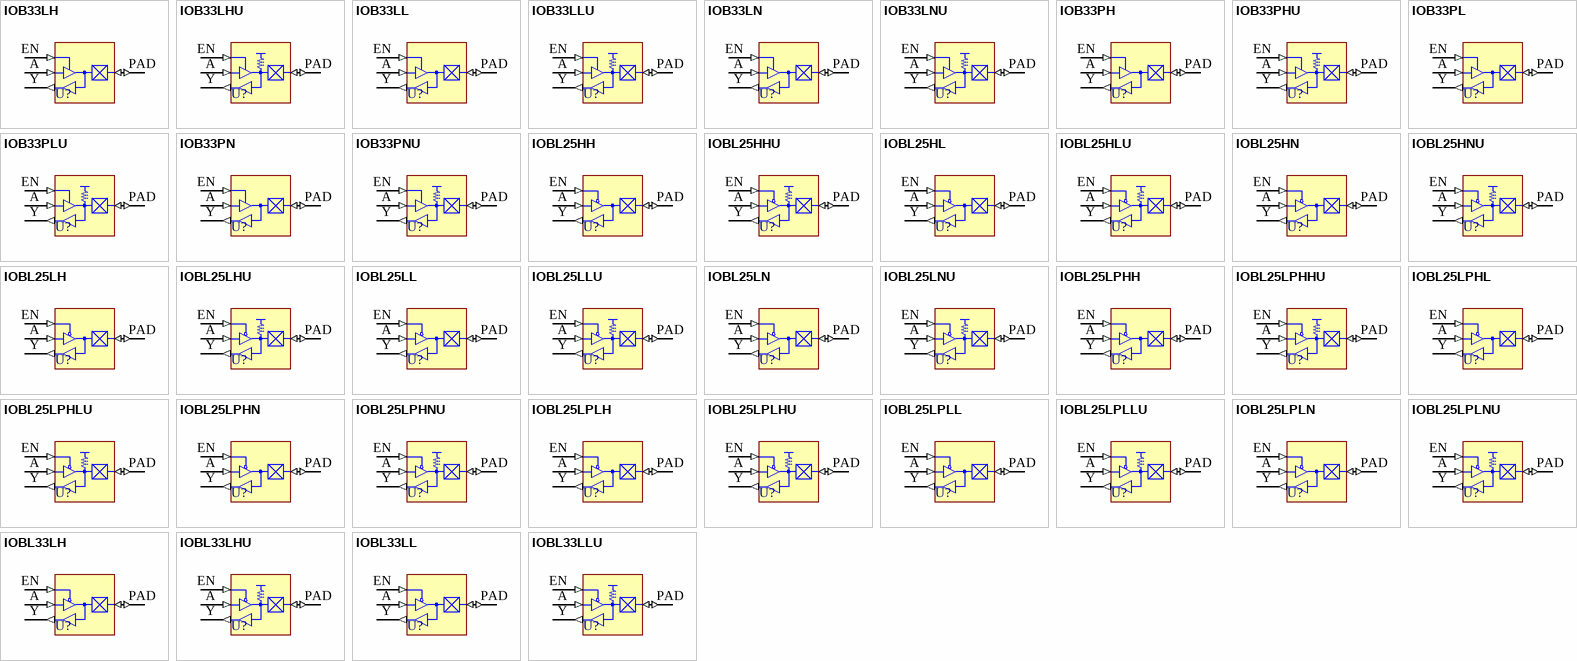
[diagram p7: symbols IOB33LH to IOBL33LLU]

## IOB33LH
designator U?
3.3 Volt CMOS input levels, low strength drive, high slew rate; FPGAVendor: Actel; Published: 21-Jul-2004; Publisher: Altium Limited; HelpURL: http://www.actel.com/documents/PA_libguide.pdf
pins: A (in), EN (in), PAD (io), Y (out)

## IOB33LHU
designator U?
3.3 Volt CMOS input levels, low strength drive, high slew rate, with pull-up resistor; FPGAVendor: Actel; Published: 21-Jul-2004; Publisher: Altium Limited; HelpURL: http://www.actel.com/documents/PA_libguide.pdf
pins: A (in), EN (in), PAD (io), Y (out)

## IOB33LL
designator U?
3.3 Volt CMOS input levels, low strength drive, low slew rate; FPGAVendor: Actel; Published: 21-Jul-2004; Publisher: Altium Limited; HelpURL: http://www.actel.com/documents/PA_libguide.pdf
pins: A (in), EN (in), PAD (io), Y (out)

## IOB33LLU
designator U?
3.3 Volt CMOS input levels, low strength drive, low slew rate, with pull-up resistor; FPGAVendor: Actel; Published: 21-Jul-2004; Publisher: Altium Limited; HelpURL: http://www.actel.com/documents/PA_libguide.pdf
pins: A (in), EN (in), PAD (io), Y (out)

## IOB33LN
designator U?
3.3 Volt CMOS input levels, low strength drive, normal slew rate; FPGAVendor: Actel; Published: 21-Jul-2004; Publisher: Altium Limited; HelpURL: http://www.actel.com/documents/PA_libguide.pdf
pins: A (in), EN (in), PAD (io), Y (out)

## IOB33LNU
designator U?
3.3 Volt CMOS input levels, low strength drive, normal slew rate, with pull-up resistor; FPGAVendor: Actel; Published: 21-Jul-2004; Publisher: Altium Limited; HelpURL: http://www.actel.com/documents/PA_libguide.pdf
pins: A (in), EN (in), PAD (io), Y (out)

## IOB33PH
designator U?
3.3 Volt CMOS input levels, PCI compliant, high slew rate; FPGAVendor: Actel; Published: 21-Jul-2004; Publisher: Altium Limited; HelpURL: http://www.actel.com/documents/PA_libguide.pdf
pins: A (in), EN (in), PAD (io), Y (out)

## IOB33PHU
designator U?
3.3 Volt CMOS input levels, PCI compliant, high slew rate, with pull-up resistor; FPGAVendor: Actel; Published: 21-Jul-2004; Publisher: Altium Limited; HelpURL: http://www.actel.com/documents/PA_libguide.pdf
pins: A (in), EN (in), PAD (io), Y (out)

## IOB33PL
designator U?
3.3 Volt CMOS input levels, PCI compliant, low slew rate; FPGAVendor: Actel; Published: 21-Jul-2004; Publisher: Altium Limited; HelpURL: http://www.actel.com/documents/PA_libguide.pdf
pins: A (in), EN (in), PAD (io), Y (out)

## IOB33PLU
designator U?
3.3 Volt CMOS input levels, PCI compliant, low slew rate, with pull-up resistor; FPGAVendor: Actel; Published: 21-Jul-2004; Publisher: Altium Limited; HelpURL: http://www.actel.com/documents/PA_libguide.pdf
pins: A (in), EN (in), PAD (io), Y (out)

## IOB33PN
designator U?
3.3 Volt CMOS input levels, PCI compliant, normal slew rate; FPGAVendor: Actel; Published: 21-Jul-2004; Publisher: Altium Limited; HelpURL: http://www.actel.com/documents/PA_libguide.pdf
pins: A (in), EN (in), PAD (io), Y (out)

## IOB33PNU
designator U?
3.3 Volt CMOS input levels, PCI compliant, normal slew rate, with pull-up resistor; FPGAVendor: Actel; Published: 21-Jul-2004; Publisher: Altium Limited; HelpURL: http://www.actel.com/documents/PA_libguide.pdf
pins: A (in), EN (in), PAD (io), Y (out)

## IOBL25HH
designator U?
2.5 Volt CMOS input levels, high drive strength, high slew rate; FPGAVendor: Actel; Published: 21-Jul-2004; Publisher: Altium Limited; HelpURL: http://www.actel.com/documents/PA_libguide.pdf
pins: A (in), EN (in), PAD (io), Y (out)

## IOBL25HHU
designator U?
2.5 Volt CMOS input levels, high drive strength, high slew rate, with pull-up resistor; FPGAVendor: Actel; Published: 21-Jul-2004; Publisher: Altium Limited; HelpURL: http://www.actel.com/documents/PA_libguide.pdf
pins: A (in), EN (in), PAD (io), Y (out)

## IOBL25HL
designator U?
2.5 Volt CMOS input levels, high drive strength, low slew rate; FPGAVendor: Actel; Published: 21-Jul-2004; Publisher: Altium Limited; HelpURL: http://www.actel.com/documents/PA_libguide.pdf
pins: A (in), EN (in), PAD (io), Y (out)

## IOBL25HLU
designator U?
2.5 Volt CMOS input levels, high drive strength, low slew rate, with pull-up resistor; FPGAVendor: Actel; Published: 21-Jul-2004; Publisher: Altium Limited; HelpURL: http://www.actel.com/documents/PA_libguide.pdf
pins: A (in), EN (in), PAD (io), Y (out)

## IOBL25HN
designator U?
2.5 Volt CMOS input levels, high drive strength, normal slew rate; FPGAVendor: Actel; Published: 21-Jul-2004; Publisher: Altium Limited; HelpURL: http://www.actel.com/documents/PA_libguide.pdf
pins: A (in), EN (in), PAD (io), Y (out)

## IOBL25HNU
designator U?
2.5 Volt CMOS input levels, high drive strength, normal slew rate, with pull-up resistor; FPGAVendor: Actel; Published: 21-Jul-2004; Publisher: Altium Limited; HelpURL: http://www.actel.com/documents/PA_libguide.pdf
pins: A (in), EN (in), PAD (io), Y (out)

## IOBL25LH
designator U?
2.5 Volt CMOS input levels, low drive strength, high slew rate; FPGAVendor: Actel; Published: 21-Jul-2004; Publisher: Altium Limited; HelpURL: http://www.actel.com/documents/PA_libguide.pdf
pins: A (in), EN (in), PAD (io), Y (out)

## IOBL25LHU
designator U?
2.5 Volt CMOS input levels, low drive strength, high slew rate, with pull-up resistor; FPGAVendor: Actel; Published: 21-Jul-2004; Publisher: Altium Limited; HelpURL: http://www.actel.com/documents/PA_libguide.pdf
pins: A (in), EN (in), PAD (io), Y (out)

## IOBL25LL
designator U?
2.5 Volt CMOS input levels, low drive strength, low slew rate; FPGAVendor: Actel; Published: 21-Jul-2004; Publisher: Altium Limited; HelpURL: http://www.actel.com/documents/PA_libguide.pdf
pins: A (in), EN (in), PAD (io), Y (out)

## IOBL25LLU
designator U?
2.5 Volt CMOS input levels, low drive strength, low slew rate, with pull-up resistor; FPGAVendor: Actel; Published: 21-Jul-2004; Publisher: Altium Limited; HelpURL: http://www.actel.com/documents/PA_libguide.pdf
pins: A (in), EN (in), PAD (io), Y (out)

## IOBL25LN
designator U?
2.5 Volt CMOS input levels, low drive strength, normal slew rate; FPGAVendor: Actel; Published: 21-Jul-2004; Publisher: Altium Limited; HelpURL: http://www.actel.com/documents/PA_libguide.pdf
pins: A (in), EN (in), PAD (io), Y (out)

## IOBL25LNU
designator U?
2.5 Volt CMOS input levels, low drive strength, normal slew rate, with pull-up resistor; FPGAVendor: Actel; Published: 21-Jul-2004; Publisher: Altium Limited; HelpURL: http://www.actel.com/documents/PA_libguide.pdf
pins: A (in), EN (in), PAD (io), Y (out)

## IOBL25LPHH
designator U?
2.5 Volt CMOS input levels, low power, high drive strength, high slew rate; FPGAVendor: Actel; Published: 21-Jul-2004; Publisher: Altium Limited; HelpURL: http://www.actel.com/documents/PA_libguide.pdf
pins: A (in), EN (in), PAD (io), Y (out)

## IOBL25LPHHU
designator U?
2.5 Volt CMOS input levels, low power, high drive strength, high slew rate, with pull-up resistor; FPGAVendor: Actel; Published: 21-Jul-2004; Publisher: Altium Limited; HelpURL: http://www.actel.com/documents/PA_libguide.pdf
pins: A (in), EN (in), PAD (io), Y (out)

## IOBL25LPHL
designator U?
2.5 Volt CMOS input levels, low power, high drive strength, low slew rate; FPGAVendor: Actel; Published: 21-Jul-2004; Publisher: Altium Limited; HelpURL: http://www.actel.com/documents/PA_libguide.pdf
pins: A (in), EN (in), PAD (io), Y (out)

## IOBL25LPHLU
designator U?
2.5 Volt CMOS input levels, low power, high drive strength, low slew rate, with pull-up resistor; FPGAVendor: Actel; Published: 21-Jul-2004; Publisher: Altium Limited; HelpURL: http://www.actel.com/documents/PA_libguide.pdf
pins: A (in), EN (in), PAD (io), Y (out)

## IOBL25LPHN
designator U?
2.5 Volt CMOS input levels, low power, high drive strength, normal slew rate; FPGAVendor: Actel; Published: 21-Jul-2004; Publisher: Altium Limited; HelpURL: http://www.actel.com/documents/PA_libguide.pdf
pins: A (in), EN (in), PAD (io), Y (out)

## IOBL25LPHNU
designator U?
2.5 Volt CMOS input levels, low power, high drive strength, normal slew rate, with pull-up resistor; FPGAVendor: Actel; Published: 21-Jul-2004; Publisher: Altium Limited; HelpURL: http://www.actel.com/documents/PA_libguide.pdf
pins: A (in), EN (in), PAD (io), Y (out)

## IOBL25LPLH
designator U?
2.5 Volt CMOS input levels, low power, low drive strength, high slew rate; FPGAVendor: Actel; Published: 21-Jul-2004; Publisher: Altium Limited; HelpURL: http://www.actel.com/documents/PA_libguide.pdf
pins: A (in), EN (in), PAD (io), Y (out)

## IOBL25LPLHU
designator U?
2.5 Volt CMOS input levels, low power, low drive strength, high slew rate, with pull-up resistor; FPGAVendor: Actel; Published: 21-Jul-2004; Publisher: Altium Limited; HelpURL: http://www.actel.com/documents/PA_libguide.pdf
pins: A (in), EN (in), PAD (io), Y (out)

## IOBL25LPLL
designator U?
2.5 Volt CMOS input levels, low power, low drive strength, low slew rate; FPGAVendor: Actel; Published: 21-Jul-2004; Publisher: Altium Limited; HelpURL: http://www.actel.com/documents/PA_libguide.pdf
pins: A (in), EN (in), PAD (io), Y (out)

## IOBL25LPLLU
designator U?
2.5 Volt CMOS input levels, low power, low drive strength, low slew rate, with pull-up resistor; FPGAVendor: Actel; Published: 21-Jul-2004; Publisher: Altium Limited; HelpURL: http://www.actel.com/documents/PA_libguide.pdf
pins: A (in), EN (in), PAD (io), Y (out)

## IOBL25LPLN
designator U?
2.5 Volt CMOS input levels, low power, low drive strength, normal slew rate; FPGAVendor: Actel; Published: 21-Jul-2004; Publisher: Altium Limited; HelpURL: http://www.actel.com/documents/PA_libguide.pdf
pins: A (in), EN (in), PAD (io), Y (out)

## IOBL25LPLNU
designator U?
2.5 Volt CMOS input levels, low power, low drive strength, normal slew rate, with pull-up resistor; FPGAVendor: Actel; Published: 21-Jul-2004; Publisher: Altium Limited; HelpURL: http://www.actel.com/documents/PA_libguide.pdf
pins: A (in), EN (in), PAD (io), Y (out)

## IOBL33LH
designator U?
3.3 Volt CMOS input levels, low strength drive, high slew rate; FPGAVendor: Actel; Published: 21-Jul-2004; Publisher: Altium Limited; HelpURL: http://www.actel.com/documents/PA_libguide.pdf
pins: A (in), EN (in), PAD (io), Y (out)

## IOBL33LHU
designator U?
3.3 Volt CMOS input levels, low strength drive, high slew rate, with pull-up resistor; FPGAVendor: Actel; Published: 21-Jul-2004; Publisher: Altium Limited; HelpURL: http://www.actel.com/documents/PA_libguide.pdf
pins: A (in), EN (in), PAD (io), Y (out)

## IOBL33LL
designator U?
3.3 Volt CMOS input levels, low strength drive, low slew rate; FPGAVendor: Actel; Published: 21-Jul-2004; Publisher: Altium Limited; HelpURL: http://www.actel.com/documents/PA_libguide.pdf
pins: A (in), EN (in), PAD (io), Y (out)

## IOBL33LLU
designator U?
3.3 Volt CMOS input levels, low strength drive, low slew rate, with pull-up resistor; FPGAVendor: Actel; Published: 21-Jul-2004; Publisher: Altium Limited; HelpURL: http://www.actel.com/documents/PA_libguide.pdf
pins: A (in), EN (in), PAD (io), Y (out)

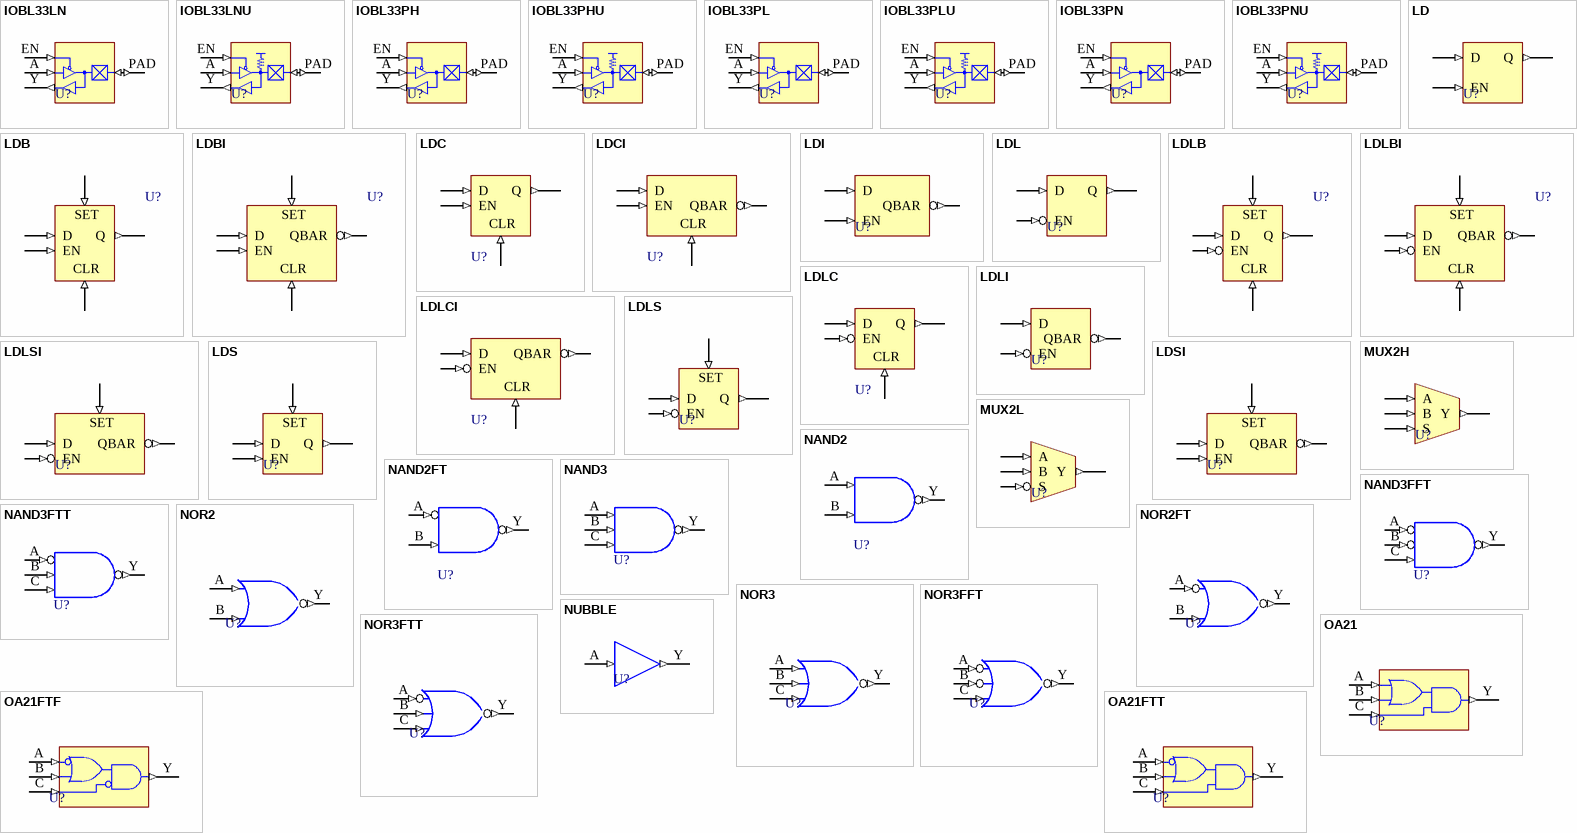
[diagram p8: symbols IOBL33LN to OA21FTT]

## IOBL33LN
designator U?
3.3 Volt CMOS input levels, low strength drive, normal slew rate; FPGAVendor: Actel; Published: 21-Jul-2004; Publisher: Altium Limited; HelpURL: http://www.actel.com/documents/PA_libguide.pdf
pins: A (in), EN (in), PAD (io), Y (out)

## IOBL33LNU
designator U?
3.3 Volt CMOS input levels, low strength drive, normal slew rate, with pull-up resistor; FPGAVendor: Actel; Published: 21-Jul-2004; Publisher: Altium Limited; HelpURL: http://www.actel.com/documents/PA_libguide.pdf
pins: A (in), EN (in), PAD (io), Y (out)

## IOBL33PH
designator U?
3.3 Volt CMOS input levels, PCI compliant, high slew rate; FPGAVendor: Actel; Published: 21-Jul-2004; Publisher: Altium Limited; HelpURL: http://www.actel.com/documents/PA_libguide.pdf
pins: A (in), EN (in), PAD (io), Y (out)

## IOBL33PHU
designator U?
3.3 Volt CMOS input levels, PCI compliant, high slew rate, with pull-up resistor; FPGAVendor: Actel; Published: 21-Jul-2004; Publisher: Altium Limited; HelpURL: http://www.actel.com/documents/PA_libguide.pdf
pins: A (in), EN (in), PAD (io), Y (out)

## IOBL33PL
designator U?
3.3 Volt CMOS input levels, PCI compliant, low slew rate; FPGAVendor: Actel; Published: 21-Jul-2004; Publisher: Altium Limited; HelpURL: http://www.actel.com/documents/PA_libguide.pdf
pins: A (in), EN (in), PAD (io), Y (out)

## IOBL33PLU
designator U?
3.3 Volt CMOS input levels, PCI compliant, low slew rate, with pull-up resistor; FPGAVendor: Actel; Published: 21-Jul-2004; Publisher: Altium Limited; HelpURL: http://www.actel.com/documents/PA_libguide.pdf
pins: A (in), EN (in), PAD (io), Y (out)

## IOBL33PN
designator U?
3.3 Volt CMOS input levels, PCI compliant, normal slew rate; FPGAVendor: Actel; Published: 21-Jul-2004; Publisher: Altium Limited; HelpURL: http://www.actel.com/documents/PA_libguide.pdf
pins: A (in), EN (in), PAD (io), Y (out)

## IOBL33PNU
designator U?
3.3 Volt CMOS input levels, PCI compliant, normal slew rate, with pull-up resistor; FPGAVendor: Actel; Published: 21-Jul-2004; Publisher: Altium Limited; HelpURL: http://www.actel.com/documents/PA_libguide.pdf
pins: A (in), EN (in), PAD (io), Y (out)

## LD
designator U?
Active High Latch; FPGAVendor: Actel; Published: 21-Jul-2004; Publisher: Altium Limited; HelpURL: http://www.actel.com/documents/PA_libguide.pdf
pins: D (in), EN (in), Q (out)

## LDB
designator U?
Active High Latch with Active High Set and Clear; FPGAVendor: Actel; Published: 21-Jul-2004; Publisher: Altium Limited; HelpURL: http://www.actel.com/documents/PA_libguide.pdf
pins: CLR (in), D (in), EN (in), Q (out), SET (in)

## LDBI
designator U?
Active High Latch with Active High Set and Clear and Active Low Output; FPGAVendor: Actel; Published: 21-Jul-2004; Publisher: Altium Limited; HelpURL: http://www.actel.com/documents/PA_libguide.pdf
pins: CLR (in), D (in), EN (in), QBAR (out), SET (in)

## LDC
designator U?
Active High Latch with Active High Clear; FPGAVendor: Actel; Published: 21-Jul-2004; Publisher: Altium Limited; HelpURL: http://www.actel.com/documents/PA_libguide.pdf
pins: CLR (in), D (in), EN (in), Q (out)

## LDCI
designator U?
Active High Latch with Active High Clear and Active Low Output; FPGAVendor: Actel; Published: 21-Jul-2004; Publisher: Altium Limited; HelpURL: http://www.actel.com/documents/PA_libguide.pdf
pins: CLR (in), D (in), EN (in), QBAR (out)

## LDI
designator U?
Active High Latch with Active Low Output; FPGAVendor: Actel; Published: 21-Jul-2004; Publisher: Altium Limited; HelpURL: http://www.actel.com/documents/PA_libguide.pdf
pins: D (in), EN (in), QBAR (out)

## LDL
designator U?
Active Low Latch; FPGAVendor: Actel; Published: 21-Jul-2004; Publisher: Altium Limited; HelpURL: http://www.actel.com/documents/PA_libguide.pdf
pins: D (in), EN (in), Q (out)

## LDLB
designator U?
Active Low Latch with Active High Set and Clear; FPGAVendor: Actel; Published: 21-Jul-2004; Publisher: Altium Limited; HelpURL: http://www.actel.com/documents/PA_libguide.pdf
pins: CLR (in), D (in), EN (in), Q (out), SET (in)

## LDLBI
designator U?
Active Low Latch with Active High Set and Clear and Active Low Output; FPGAVendor: Actel; Published: 21-Jul-2004; Publisher: Altium Limited; HelpURL: http://www.actel.com/documents/PA_libguide.pdf
pins: CLR (in), D (in), EN (in), QBAR (out), SET (in)

## LDLC
designator U?
Active Low Latch with Active High Clear; FPGAVendor: Actel; Published: 21-Jul-2004; Publisher: Altium Limited; HelpURL: http://www.actel.com/documents/PA_libguide.pdf
pins: CLR (in), D (in), EN (in), Q (out)

## LDLCI
designator U?
Active Low Latch with Active High Clear and Active Low Output; FPGAVendor: Actel; Published: 21-Jul-2004; Publisher: Altium Limited; HelpURL: http://www.actel.com/documents/PA_libguide.pdf
pins: CLR (in), D (in), EN (in), QBAR (out)